# EAGLE library part TL7660CD (library TL7660CD)
Check prices <https://pricing.snapeda.com/parts/TL7660CD/Texas%20Instruments/view-part?ref=eda>
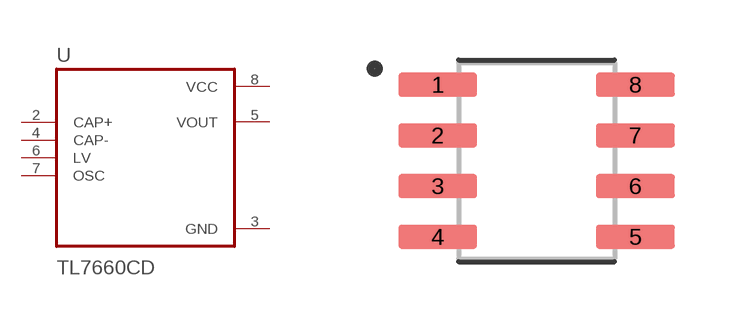
[diagram p0: symbol with the pads of SOIC127P599X175-8N; footprint SOIC127P599X175-8N]

Designator prefix U

## TL7660CD (Availability: In Stock; Description: CMOS Voltage Converter 8-SOIC -40 to 85; MF: Texas Instruments; MP: TL7660CD; Package: SOIC-8 Texas Instruments; Price: None; Purchase-URL: https://pricing.snapeda.com/search/part/TL7660CD/?ref=eda)  [SOIC127P599X175-8N]
2  CAP+  in
3  GND  pwr
4  CAP-  in
5  VOUT  out
6  LV  in
7  OSC  in
8  VCC  pwr

## Footprint SOIC127P599X175-8N (pad centres in mm)
smd 1.97 x 0.6: 1 -2.47,1.905; 2 -2.47,0.635; 3 -2.47,-0.635; 4 -2.47,-1.905; 5 2.47,-1.905; 6 2.47,-0.635; 7 2.47,0.635; 8 2.47,1.905